# EAGLE library part BLE112-VISUAL (library jetney-silabs-modules)
Bluetooth Low Energy single-mode module - Bluetooth 4.0 (CC2540). BLE112-A variant has an on-module ceramic chip antenna, BLE112-E variant has U.Fl connector. The BLE112 is a Bluetooth Smart module targeted for low-power sensors and accessories. It integrates all features required for a Bluetooth Smart application, including Bluetooth radio, software stack, and GATT-based profiles. The BLE112 Bluetooth Smart module can also host end-user applications, which means no external micro controller is required in size or price constrained devices. Morover, ithas flexible hardware interfaces to connect to different peripherals and sensors and can be powered directly from a standard 3V coin cell battery or a pair of AAA batteries. In the lowest power sleep mode it merely consumes 500 nA and will wake up within a few hundred microseconds. EAGLE device created by Jeff Rowberg for Jetney Development at https://www.jetney.com Latest version maintained at https://github.com/jetney/jetney-eagle-libraries (jetney-silabs-modules.lbr) Last updated 2016-11-21
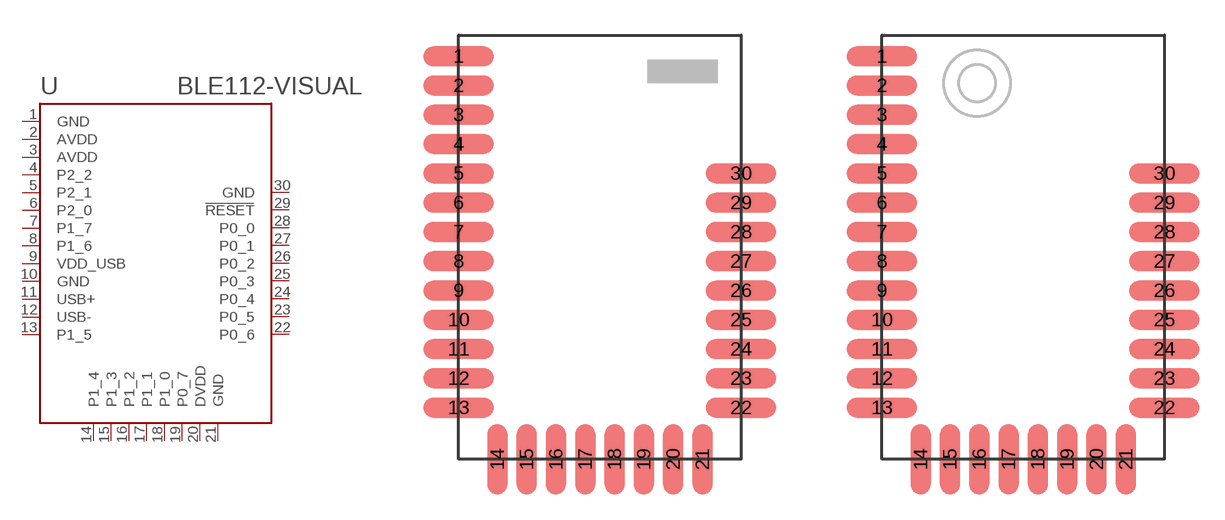
[diagram p6: symbol with the pads of BLE112-A; footprints BLE112-A, BLE112-E]

Designator prefix U

## BLE112-VISUAL-A (ANTENNA: On-module ceramic chip antenna)  [BLE112-A]
1  GND  pwr
2  AVDD  pwr
3  AVDD  pwr
4  P2_2
5  P2_1
6  P2_0
7  P1_7
8  P1_6
9  VDD_USB  pwr
10  GND  pwr
11  USB+
12  USB-
13  P1_5
14  P1_4
15  P1_3
16  P1_2
17  P1_1
18  P1_0
19  P0_7
20  DVDD  pwr
21  GND  pwr
22  P0_6
23  P0_5
24  P0_4
25  P0_3
26  P0_2
27  P0_1
28  P0_0
29  RESET  in
30  GND  pwr

## BLE112-VISUAL-E (ANTENNA: U.Fl connector)  [BLE112-E]
Pads as for BLE112-A

## Footprint BLE112-A (pad centres in mm)
BLE112-A Bluetooth Smart Module package PCB LAYOUT NOTE: The BLE112-A variant has an on-module ceramic chip antenna, and the package includes required keepout/restrict area. The antenna edge of the module should be flush up against the edge of the PCB. See datasheet for variant layout details. Source: http://www.silabs.com/products/wireless/bluetooth/bluetooth-smart-modules/Pages/ble112-bluetooth-smart-module.aspx EAGLE package created by Jeff Rowberg for Jetney Development at https://www.jetney.com Latest version maintained at https://github.com/jetney/jetney-eagle-libraries/blob/master/jetney-silabs-modules.lbr Last updated 2016-11-21
smd 3 x 0.85: 1 -6.05,8.15; 2 -6.05,6.9; 3 -6.05,5.65; 4 -6.05,4.4; 5 -6.05,3.15; 6 -6.05,1.9; 7 -6.05,0.65; 8 -6.05,-0.6; 9 -6.05,-1.85; 10 -6.05,-3.1; 11 -6.05,-4.35; 12 -6.05,-5.6; 13 -6.05,-6.85; 22 6,-6.85; 23 6,-5.6; 24 6,-4.35; 25 6,-3.1; 26 6,-1.85; 27 6,-0.6; 28 6,0.65; 29 6,1.9; 30 6,3.15
smd 0.85 x 3: 14 -4.4,-9.05; 15 -3.15,-9.05; 16 -1.9,-9.05; 17 -0.65,-9.05; 18 0.6,-9.05; 19 1.85,-9.05; 20 3.1,-9.05; 21 4.35,-9.05

## Footprint BLE112-E (pad centres in mm)
BLE112-E Bluetooth Smart Module package PCB LAYOUT NOTE: The BLE112-A variant has a U.Fl connector for RF output, and therefore the module has no PCB placement requirements for RF optimization. See datasheet for variant layout details. Source: http://www.silabs.com/products/wireless/bluetooth/bluetooth-smart-modules/Pages/ble112-bluetooth-smart-module.aspx EAGLE package created by Jeff Rowberg for Jetney Development at https://www.jetney.com Latest version maintained at https://github.com/jetney/jetney-eagle-libraries/blob/master/jetney-silabs-modules.lbr Last updated 2016-11-21
smd 3 x 0.85: 1 -6.05,8.15; 2 -6.05,6.9; 3 -6.05,5.65; 4 -6.05,4.4; 5 -6.05,3.15; 6 -6.05,1.9; 7 -6.05,0.65; 8 -6.05,-0.6; 9 -6.05,-1.85; 10 -6.05,-3.1; 11 -6.05,-4.35; 12 -6.05,-5.6; 13 -6.05,-6.85; 22 6,-6.85; 23 6,-5.6; 24 6,-4.35; 25 6,-3.1; 26 6,-1.85; 27 6,-0.6; 28 6,0.65; 29 6,1.9; 30 6,3.15
smd 0.85 x 3: 14 -4.4,-9.05; 15 -3.15,-9.05; 16 -1.9,-9.05; 17 -0.65,-9.05; 18 0.6,-9.05; 19 1.85,-9.05; 20 3.1,-9.05; 21 4.35,-9.05